# EAGLE library part 1814650 (library RoboJackets-Connectors)
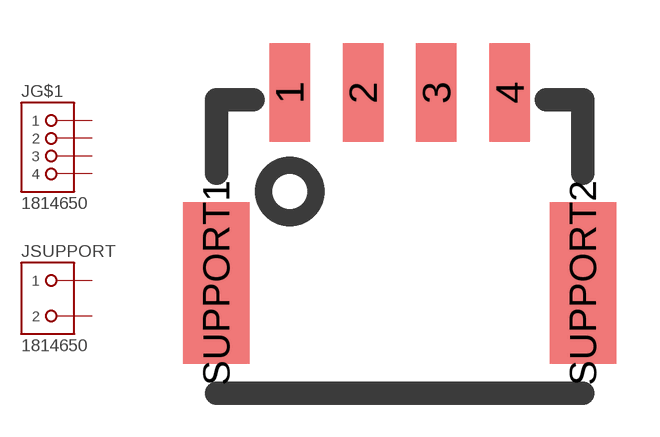
[diagram p7: symbol with the pads of 1814650; footprint 1814650]

Designator prefix J; gates G$1=4-PIN_CONN SUPPORT=2-PIN_CONN

## 1814650  [1814650]
1  G$1:1  pas
2  G$1:2  pas
3  G$1:3  pas
4  G$1:4  pas
SUPPORT1  SUPPORT:1
SUPPORT2  SUPPORT:2

## Footprint 1814650 (pad centres in mm)
smd 1.4 x 3.4: 1 -3.81,6.6; 2 -1.27,6.6; 3 1.27,6.6; 4 3.81,6.6
smd 2.3 x 5.6: SUPPORT1 -6.35,0; SUPPORT2 6.35,0